# Altium footprint library LED_MP-3030-210H-40-95.PcbLib: 1 footprints
Each footprint in its own frame and in the unit in brackets; x right, y up, seen from the top. Pads: shape width x height; smd on the part's side, far side on the other; paste and mask are expansions set on the pad; w line width, h text height; cw(c..) or ccw(c..) is an arc to the next point about the centre after c.
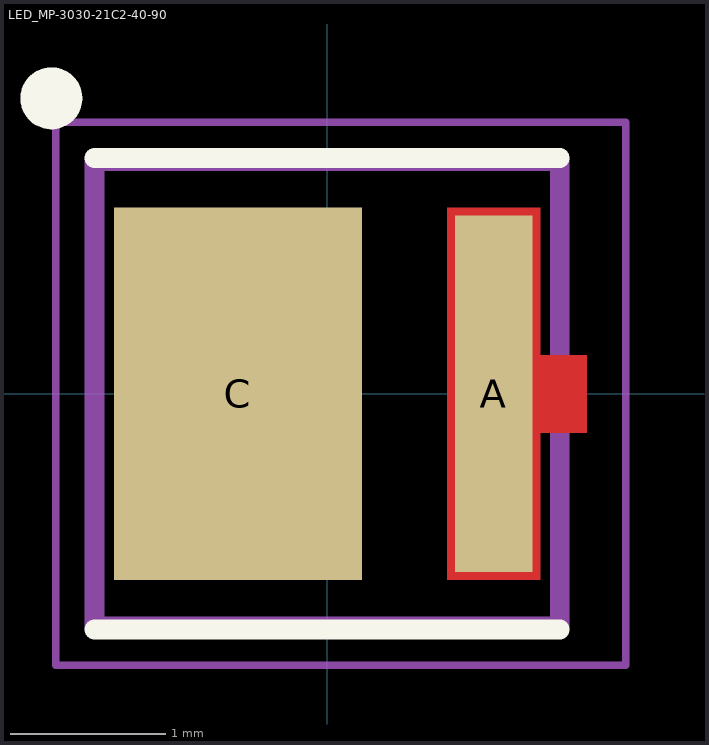
[diagram p0: the footprint, top view; thin cyan lines are the x and y axes]

## LED_MP-3030-21C2-40-90 [mm]
pads (2):
  rect 0.5x2.3 smd paste-2 mask+0: A(1.075,0)
  rect 1.6x2.4 smd paste-2: C(-0.575,0)
Top Layer:
  region: 1.375,0.25 1.675,0.25 1.675,-0.25 1.375,-0.25 1.375,-1.2 0.775,-1.2 0.775,1.2 1.375,1.2
Top Overlay:
  circle w0.2: c-1.778,1.905 r0.1
  lines w0.127: -1.5,-1.52 1.5,-1.52 ; -1.5,1.52 1.5,1.52
Top Paste:
  region: 0.075,-0.95 -1.225,-0.95 -1.225,0.95 0.075,0.95
  region: 1.275,-0.95 0.875,-0.95 0.875,0.95 1.275,0.95
Top Solder:
  region: 1.475,0.35 1.775,0.35 1.775,-0.35 1.475,-0.35 1.475,-1.3 0.675,-1.3 0.675,1.3 1.475,1.3
Mechanical 13:
  lines w0.127: -1.5,-1.5 1.5,-1.5 1.5,1.5 -1.5,1.5 -1.5,-1.5
Mechanical 15:
  lines w0.05: -1.75,-1.75 -1.75,1.75 1.925,1.75 1.925,-1.75 -1.75,-1.75
3D body "step_temp.STEP": height 0.65, standoff 0, extent -1.5,-1.5 1.5,1.5